# EAGLE library part TMC429-PI24 (library trinamic)
TRINAMIC 3-axis universal motion controller for stepper motor drivers Information given in this library is believed to be accurate and reliable. However no warranty is given for its correctness. Datasheet for TMC429 <http://www.trinamic.com/tmc/media/Downloads/integrated_circuits/TMC429/TMC429_datasheet.pdf> Description 3-axis universal motion controller for stepper motor drivers The TMC429 is a miniaturized low cost, high performance stepper motor controller for up to three motors. It integrates all real time critical tasks in reliable, dedicated hardware: An integrated motion ramp profile generator as well as an adaptable microstep sequencer with microstep RAM table. Advanced stop- and reference switch handling allows for precise and fast referencing as well as on-the-fly position checking. Automatic motor current control gives high motor dynamics while saving energy. The interrupt output can generate precise position pulses. The TMC429 is fully downwards compatible to the TMC428. The TMC429 connects to the recent coolStep™ drivers (TMC260, TMC262 and TMC389) via Step- & Direction signals (S/D) or to the classic TRINAMIC drivers TMC236, TMC239, TMC246 and TMC249 via SPI™ . The communication with the host microcontroller is done with an extra SPI™ interface. The host just needs to do high-level control tasks, e.g. giving the command: Drive motor 2 to position 1000. The TMC429 automatically calculates the motion ramp based on velocity and acceleration parameters. TMC 429 - the small but intelligent controller Miniaturized low cost 3 axes motor controller High-performance micro stepping SPI™ host interface with easy-to-use protocol Step-/Direction or SPI™ driver interface On-the-fly alteration of position set point Specifications Main characteristics controls up to three stepper motors selectable driver interface: Step&Direction or SPI different types of SPI™ stepper motor driver chips may by mixed within a single daisy chain communication on demand minimizes traffic to the SPI™ stepper motor drivers chain allows read-out of driver status information programmable SPI™ data rates up to 1 Mbit/s wide range for clock frequency - can use CPU clock up to 32 MHz internal 24 bit wide position counters full step frequencies up to 20 kHz individual micro step resolution of {64, 32, 16, 8, 4, 2, 1} micro steps (SPI mode) programmable 6 bit micro step table with up to 64 entries for a quarter sine wave period (SPI mode) on-the-fly alteration of target motion parameters (like position, velocity, acceleration) read-out facility for current motion parameters (position, velocity, acceleration) integrated power-on-reset NEW: "position reached" trigger output Interface Configurable interface for SPI™ motor drivers (e.g. TMC236, TMC239, TMC246, TMC249) Step-/Direction interface for universal motor drivers (e.g. TMC260, TMC262, TMC389) SPI™ host interface Electrical Data 3.3V or 5V operation with CMOS / TTL compatible IOs (all inputs Schmitt-Trigger) Power down mode (100 µA) with transparent wake-up for normal operation (typ. 10 mA @ 16 MHz) Package Chip size 32 pin QFN 5x5mm SOP24 Ultra small 16 pin SSOP (TMC428-I compatible, reduced TMC429 functionality)
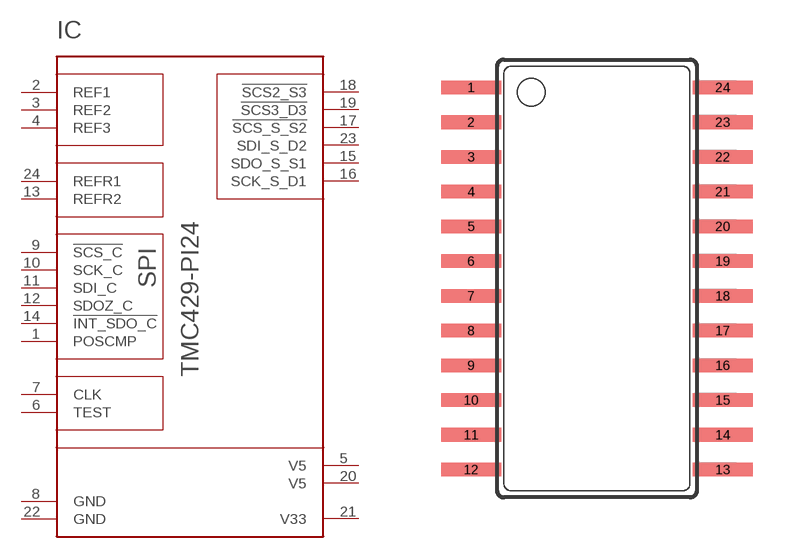
[diagram p7: symbol with the pads of SOP24; footprint SOP24]

Designator prefix IC

## TMC429-PI24  [SOP24]
1  POSCMP
2  REF1  in
3  REF2  in
4  REF3  in
5  V5  in
6  TEST  in
7  CLK  in
8  GND  in
9  !SCS_C  in
10  SCK_C  in
11  SDI_C  in
12  SDOZ_C  hiz
13  REFR2  in
14  !INT_SDO_C  out
15  SDO_S_S1  out
16  SCK_S_D1  out
17  !SCS_S_S2  out
18  !SCS2_S3  out
19  !SCS3_D3  out
20  V5  in
21  V33  in
22  GND  in
23  SDI_S_D2
24  REFR1  in

## Footprint SOP24 (pad centres in mm)
smd 2.2 x 0.5: 1 -4.6,6.985; 2 -4.6,5.715; 3 -4.6,4.445; 4 -4.6,3.175; 5 -4.6,1.905; 6 -4.6,0.635; 7 -4.6,-0.635; 8 -4.6,-1.905; 9 -4.6,-3.175; 10 -4.6,-4.445; 11 -4.6,-5.715; 12 -4.6,-6.985; 13 4.6,-6.985; 14 4.6,-5.715; 15 4.6,-4.445; 16 4.6,-3.175; 17 4.6,-1.905; 18 4.6,-0.635; 19 4.6,0.635; 20 4.6,1.905; 21 4.6,3.175; 22 4.6,4.445; 23 4.6,5.715; 24 4.6,6.985